# Altium footprint library SATA.PcbLib: 1 footprints
Each footprint in its own frame and in the unit in brackets; x right, y up, seen from the top. Pads: shape width x height; smd on the part's side, far side on the other; paste and mask are expansions set on the pad; w line width, h text height; cw(c..) or ccw(c..) is an arc to the next point about the centre after c.
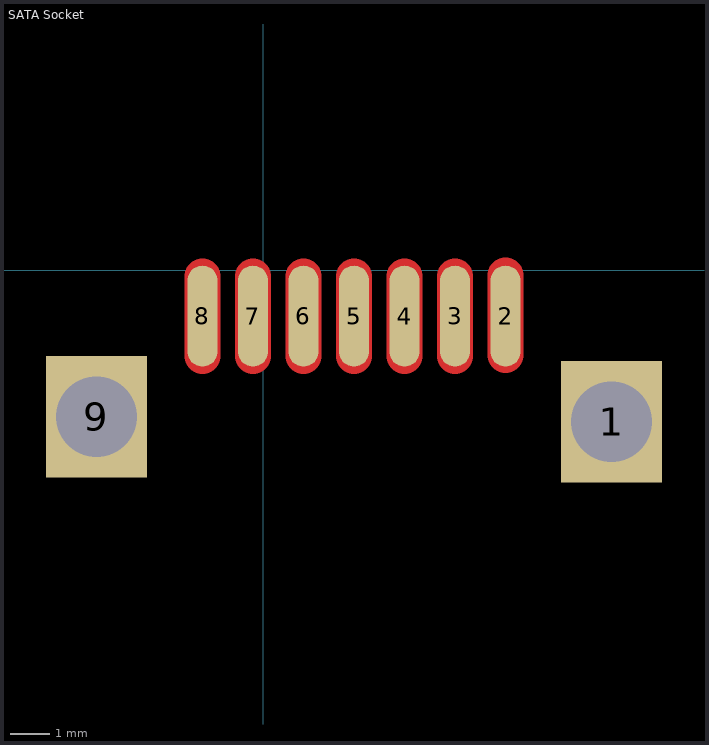
[diagram p0: the footprint, top view; thin cyan lines are the x and y axes]

## SATA Socket [mil] "SATA"
pads (9):
  rect 100x120 hole 80: 1(345,-150) 9(-165,-145)
  oval 30x100 smd: 2(240,-45.5) 3(190,-45.5) 4(140,-45.5) 5(90,-45.5) 6(40,-45.5) 7(-10,-45.5) 8(-60,-45.5)
Top Layer:
  lines w35.4: -60,-85 -60,-6 ; -10,-85 -10,-6 ; 40,-85 40,-6 ; 90,-85 90,-6 ; 140,-85 140,-6 ; 190,-85 190,-6 ; 240,-84 240,-5